# Altium schematic symbol library SCH - POWER - LINEAR VREG - TI LM1117S-ADJ.SchLib: 1 symbol
Pins are listed as number, name and electrical type; pins without a type are passive.

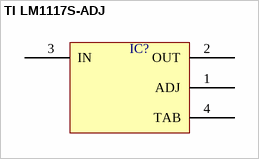
[diagram p0: symbol TI LM1117S-ADJ]

## TI LM1117S-ADJ
designator IC?  (value not drawn)
pins: 1 ADJ, 2 OUT, 3 IN, 4 TAB